# Altium schematic symbol library TR_PMOS.SchLib: 2 symbols
Pins are listed as number, name and electrical type; pins without a type are passive.

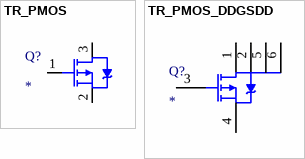
[diagram p0: symbols TR_PMOS to TR_PMOS_DDGSDD]

## TR_PMOS
designator Q?
pins: 1 G, 2 S, 3 D

## TR_PMOS_DDGSDD
designator Q?
pins: 1 G, 2 S, 3 D, 4, 5, 6